# Altium footprint library Transistor.PcbLib: 45 footprints (part 2 of 3)
Each footprint in its own frame and in the unit in brackets; x right, y up, seen from the top. Pads: shape width x height; smd on the part's side, far side on the other; paste and mask are expansions set on the pad; w line width, h text height; cw(c..) or ccw(c..) is an arc to the next point about the centre after c.
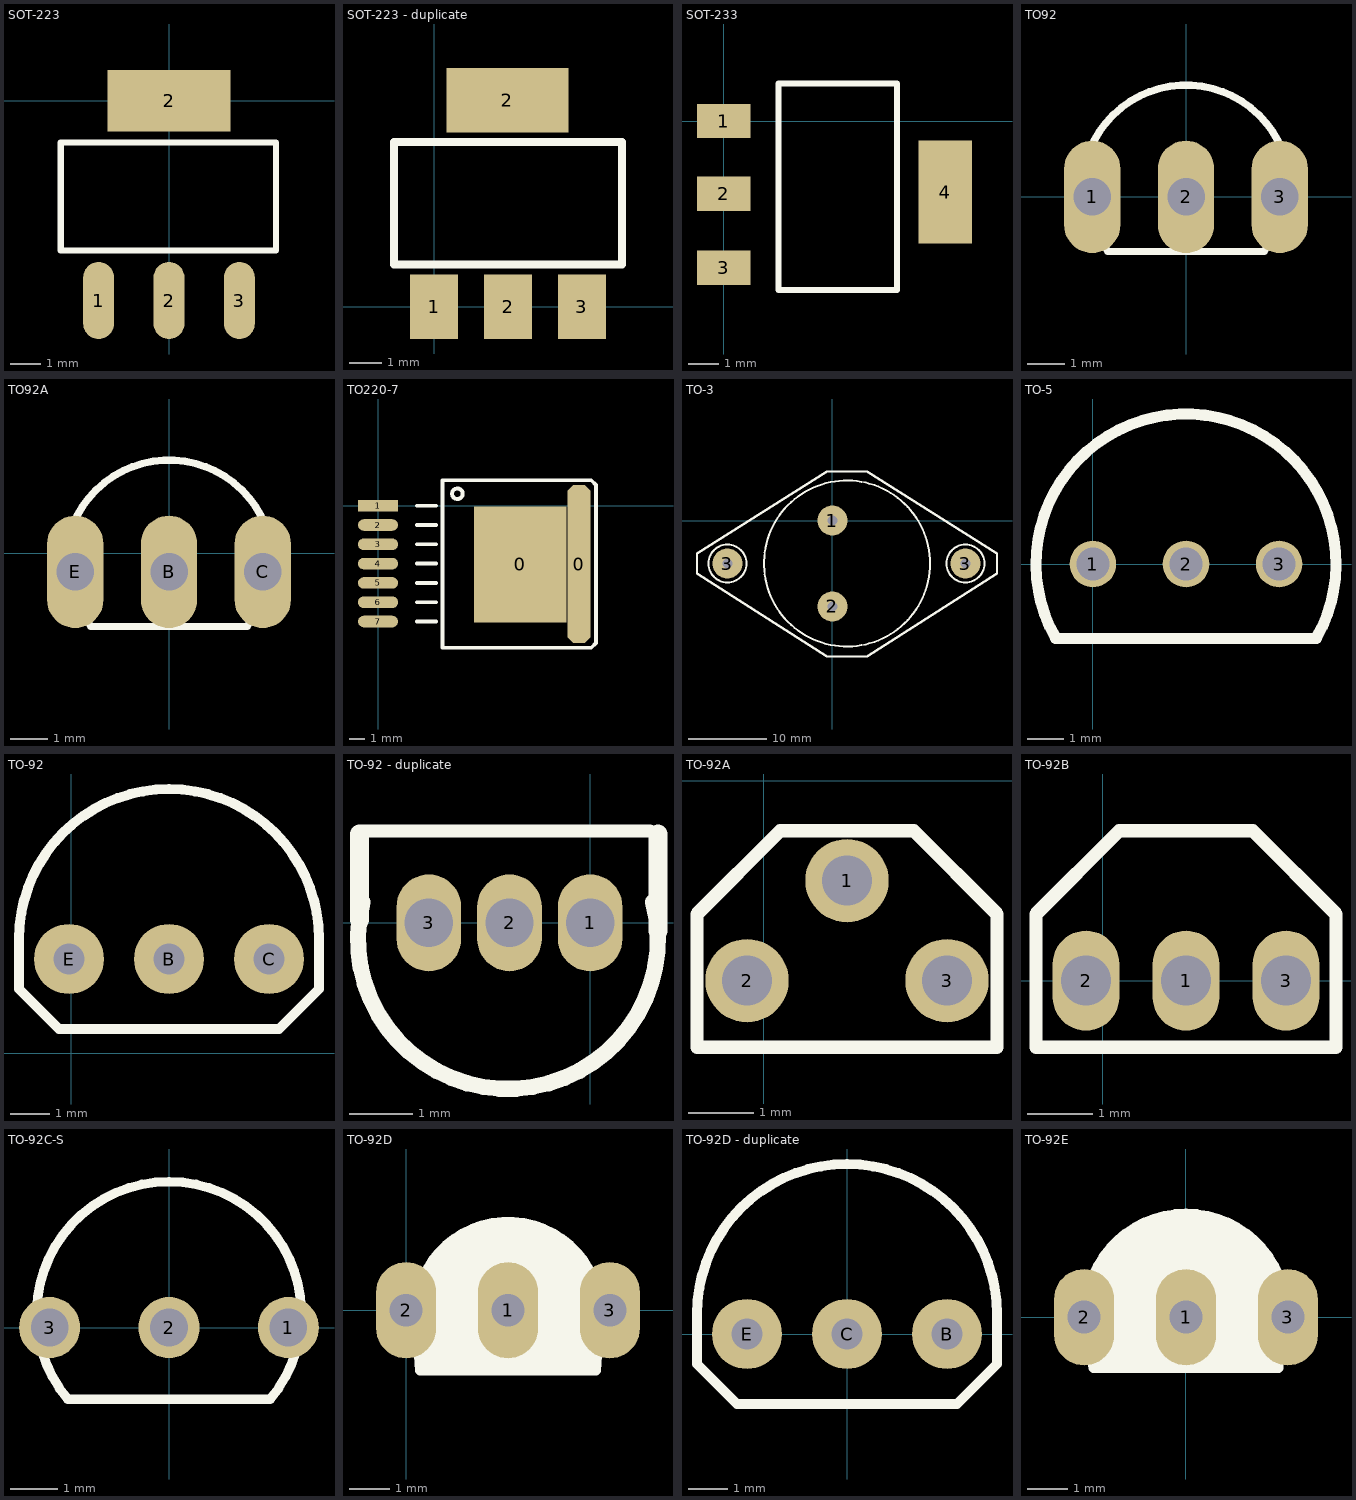
[diagram p1: the footprints below, top view; thin cyan lines are the x and y axes]

## SOT-223 [mm]
pads (4):
  oval 1x2.5 smd: 1(-2.29,-6.5) 2(0,-6.5) 3(2.29,-6.5)
  rect 4x2 smd: 2(0,0)
Top Overlay:
  lines w0.2: -3.519,-4.869 3.481,-4.869 3.481,-1.369 -3.519,-1.369 -3.519,-4.869
3D body "SOT-223-3.step": height 1.68, standoff 0, extent -3.25,-6.782 3.25,0.178

## SOT-223 - duplicate [mil]
pads (4):
  rect 59x79 smd: 1(0,0) 2(90.55,0) 3(181.1,0)
  rect 150x79 smd: 2(89.88,253.54)
Top Overlay:
  lines w10: -49.45,52 -49.45,202 230.55,202 230.55,52 -49.45,52

## SOT-233 [mil]
pads (4):
  rect 70x45 smd: 1(0,0) 2(0,-95.04) 3(0,-192)
  rect 70x135 smd: 4(290.35,-92.95)
Top Overlay:
  lines w8: 71.65,-221.02 226.65,-221.02 226.65,48.98 71.65,48.98 71.65,-221.02

## TO92 [mil]
pads (3):
  oval 60x120 hole 40: 1(-100,0) 2(0,0) 3(100,0)
Top Overlay:
  lines w7.87: -102.76,49.85 cw(c0,8.33) 102.76,49.85 ; -89.08,-49.71 -83.33,-58.33 83.33,-58.33 89.08,-49.71

## TO92A [mil]
pads (3):
  oval 60x120 hole 40: B(0,-20) C(100,-20) E(-100,-20)
Top Overlay:
  lines w7.87: -102.76,29.85 cw(c0,-11.67) 102.76,29.85 ; -89.08,-69.71 -83.33,-78.33 83.33,-78.33 89.08,-69.71

## TO220-7 [mil]
pads (9):
  rect 240x300 smd: 0(368,-152)
  oct 60x410 smd: 0(520,-151)
  rect 104x30 smd: 1(0,0)
  oval 104x30 smd: 2(0,-50) 3(0,-100) 4(0,-150) 5(0,-200) 6(0,-250) 7(0,-300)
Top Overlay:
  circle w10: c205.4,31 r13.6
  lines w10: 100,-300 150,-300 ; 100,-250 150,-250 ; 100,-200 150,-200 ; 100,-150 150,-150 ; 100,-100 150,-100 ; 100,-50 150,-50 ; 100,0 150,0 ; 167,-368 167,66 537,66 552,66 564,54 564,-356 552,-368 537,-368 167,-368

## TO-3 [mil]
pads (4):
  round 150 hole 50: 1(0,0) 2(0,-430) 3(-525,-215) 3(665,-215)
Top Overlay:
  circle w10: c73,-215 r415
  circle w10: c665,-215 r95
  circle w10: c-525,-215 r95
  lines w12: -677,-265 -27,-680 173,-680 823,-265 823,-165 173,245 -27,245 -677,-165 -677,-265

## TO-5 [mm]
pads (3):
  round 1.27 hole 0.9: 1(0,0) 2(2.54,0) 3(5.08,0)
Top Overlay:
  lines w0.305: -1.016,-2.032 cw(c2.54,0) 6.096,-2.032 -1.016,-2.032

## TO-92 [mil]
pads (3):
  round 70 hole 31.5: B(98,94) C(198,94) E(-2,94)
Top Overlay:
  lines w10: -52,64 -52,114 cw(c98,114) 248,114 248,64 208,24 -12,24 -52,64

## TO-92 - duplicate [mil]
pads (3):
  oval 40x60 hole 30: 1(0,0) 2(-50,0) 3(-100,0)
Top Overlay:
  lines w8: -143,57 37,57
  lines w10: -141,13 ccw(c-51,-10) 39,13
  lines w12: -143,2 -143,55 ; 42,-5 42,55

## TO-92A [mil]
pads (3):
  round 50 hole 30: 1(50,-60) 2(-10,-120) 3(110,-120)
Top Overlay:
  lines w8: -40,-160 140,-160 140,-80 90,-30 10,-30 -40,-80 -40,-160

## TO-92B [mil]
pads (3):
  oval 40x60 hole 30: 1(50,0) 2(-10,0) 3(110,0)
Top Overlay:
  lines w8: -40,-40 -40,40 10,90 90,90 140,40 140,-40 -40,-40

## TO-92C-S [mm]
height 10
pads (3):
  round 1.3 hole 0.8: 1(2.54,0) 2(0,0) 3(-2.54,0)
Top Overlay:
  lines w0.2: -2.157,-1.522 cw(c0,0.288) 2.157,-1.522 -2.157,-1.522
3D body "User Library-TO-92-4.step": height 10.33, standoff -7.7, extent -2.888,-1.53 2.852,2.66

## TO-92D [mm]
pads (3):
  oval 1.5x2.4 hole 0.82: 1(2.54,0) 2(0,0) 3(5.08,0)
Top Overlay:
  lines w0.25: 0.29,-0.5 0.29,0 ; 0.34,0 cw(c2.54,-0.116) 4.74,0 ; 0.39,-1.5 0.39,0 ; 0.39,-1.45 4.59,-1.45 ; 0.39,-1.35 4.59,-1.35 ; 0.39,-1.25 4.59,-1.25 ; 0.39,-1.15 4.59,-1.15 ; 0.39,-1.05 4.59,-1.05 ; 0.39,-0.95 4.59,-0.95 ; 0.39,-0.85 4.59,-0.85 ; 0.39,-0.75 4.59,-0.75 ; 0.39,-0.65 4.59,-0.65 ; 0.44,-0.55 4.64,-0.55 ; 0.44,-0.45 4.64,-0.45 ; 0.44,-0.35 4.64,-0.35 ; 0.44,-0.25 4.64,-0.25 ; 0.44,-0.15 4.64,-0.15 ; 0.44,-0.05 4.64,-0.05 ; 0.44,0 cw(c2.54,-0.11) 4.64,0 ; 0.54,0 cw(c2.54,-0.105) 4.54,0 ; 0.64,0 cw(c2.54,-0.1) 4.44,0 ; 0.74,0 cw(c2.54,-0.094) 4.34,0 ; 0.84,0 cw(c2.54,-0.089) 4.24,0 ; 0.94,0 cw(c2.54,-0.084) 4.14,0 ; 1.04,0 cw(c2.54,-0.079) 4.04,0 ; 1.14,0 cw(c2.54,-0.073) 3.94,0 ; 1.24,0 cw(c2.54,-0.068) 3.84,0 ; 1.34,0 cw(c2.54,-0.063) 3.74,0 ; 1.44,0 cw(c2.54,-0.058) 3.64,0 ; 1.54,0 cw(c2.54,-0.052) 3.54,0 ; 1.64,0 cw(c2.54,-0.047) 3.44,0 ; 1.74,0 cw(c2.54,-0.042) 3.34,0 ; 1.84,0 cw(c2.54,-0.037) 3.24,0 ; 1.94,0 cw(c2.54,-0.031) 3.14,0 ; 2.04,0 cw(c2.54,-0.026) 3.04,0 ; 2.14,0 cw(c2.54,-0.021) 2.94,0 ; 2.24,0 cw(c2.54,-0.016) 2.84,0 ; 4.69,-1.5 4.69,0 ; 4.79,-0.5 4.79,0 ; 0.24,0 cw(c2.54,-0.093) 4.84,0 4.74,-1.5 0.34,-1.5 0.24,0

## TO-92D - duplicate [mil]
pads (3):
  round 70 hole 31.5: B(100,0) C(0,0) E(-100,0)
Top Overlay:
  lines w10: -150,-30 -150,20 cw(c0,20) 150,20 150,-30 110,-70 -110,-70 -150,-30

## TO-92E [mm]
pads (3):
  oval 1.5x2.4 hole 0.82: 1(0.006,0.008) 2(-2.534,0.008) 3(2.546,0.008)
Top Overlay:
  lines w0.25: -2.394,-0.492 -2.394,0.008 cw(c0.006,0.106) 2.406,0.008 2.406,-0.492 ; -2.294,-1.192 -2.294,0.008 cw(c0.006,0.1) 2.306,0.008 2.306,-1.192 ; -2.194,-1.192 2.206,-1.192 ; -2.194,-1.092 2.206,-1.092 ; -2.194,-0.992 2.206,-0.992 ; -2.194,-0.892 2.206,-0.892 ; -2.194,-0.792 2.206,-0.792 ; -2.194,-0.692 2.206,-0.692 ; -2.194,-0.592 2.206,-0.592 ; -2.194,-0.492 2.206,-0.492 ; -2.194,-0.392 2.206,-0.392 ; -2.194,-0.292 2.206,-0.292 ; -2.194,-0.192 2.206,-0.192 ; -2.194,-0.092 2.206,-0.092 ; -2.194,0.008 cw(c0.006,0.096) 2.206,0.008 ; -2.094,0.008 cw(c0.006,0.092) 2.106,0.008 ; -1.994,0.008 cw(c0.006,0.088) 2.006,0.008 ; -1.894,0.008 cw(c0.006,0.084) 1.906,0.008 ; -1.794,0.008 cw(c0.006,0.08) 1.806,0.008 ; -1.694,0.008 cw(c0.006,0.076) 1.706,0.008 ; -1.594,0.008 cw(c0.006,0.072) 1.606,0.008 ; -1.494,0.008 cw(c0.006,0.068) 1.506,0.008 ; -1.394,0.008 cw(c0.006,0.064) 1.406,0.008 ; -1.294,0.008 cw(c0.006,0.06) 1.306,0.008 ; -1.194,0.008 cw(c0.006,0.056) 1.206,0.008 ; -1.094,0.008 cw(c0.006,0.052) 1.106,0.008 ; -0.994,0.008 cw(c0.006,0.048) 1.006,0.008 ; -0.894,0.008 cw(c0.006,0.044) 0.906,0.008 ; -0.794,0.008 cw(c0.006,0.04) 0.806,0.008 ; -0.694,0.008 cw(c0.006,0.036) 0.706,0.008 ; -0.594,0.008 cw(c0.006,0.032) 0.606,0.008 ; -0.494,0.008 cw(c0.006,0.028) 0.506,0.008 ; -0.394,0.008 cw(c0.006,0.024) 0.406,0.008 ; -0.294,0.008 cw(c0.006,0.02) 0.306,0.008 ; -0.194,0.008 cw(c0.006,0.016) 0.206,0.008 ; -2.494,0.008 cw(c0.006,0.086) 2.506,0.008 2.306,-1.262 -2.296,-1.262 -2.494,0.008